# Altium footprint library KEY按键轻触开关.PcbLib: 1 footprints
Each footprint in its own frame and in the unit in brackets; x right, y up, seen from the top. Pads: shape width x height; smd on the part's side, far side on the other; paste and mask are expansions set on the pad; w line width, h text height; cw(c..) or ccw(c..) is an arc to the next point about the centre after c.
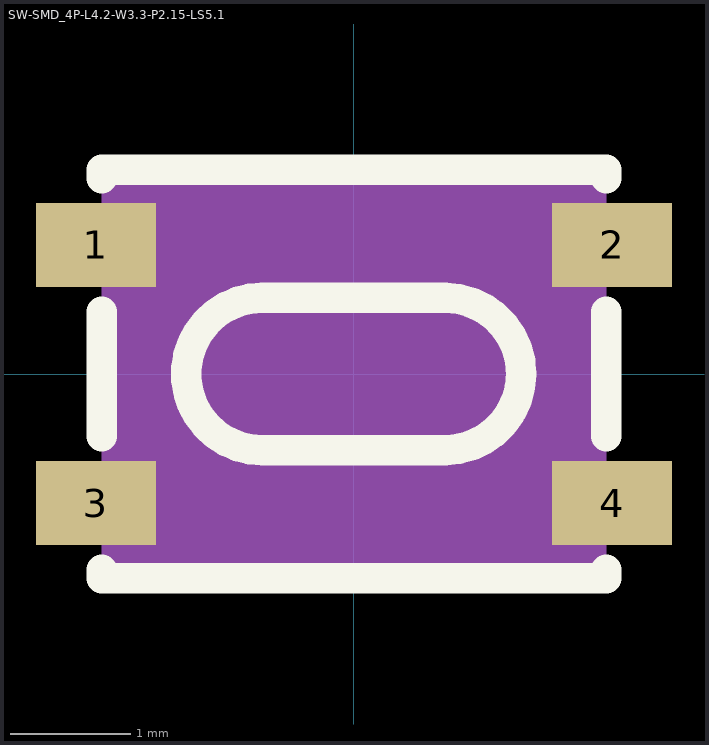
[diagram p0: the footprint, top view; thin cyan lines are the x and y axes]

## SW-SMD_4P-L4.2-W3.3-P2.15-LS5.1 [mm]
pads (4):
  rect 1x0.7 smd: 1(-2.15,1.075) 2(2.15,1.075) 3(-2.15,-1.075) 4(2.15,-1.075)
Top Overlay:
  lines w0.254: -2.1,-1.631 -2.1,-1.7 2.1,-1.7 2.1,-1.631 ; -2.1,-0.519 -2.1,0.519 ; -2.1,1.631 -2.1,1.7 2.1,1.7 2.1,1.631 ; -0.763,0.636 ccw(c-0.763,0) -0.762,-0.635 0.762,-0.635 ; -0.762,0.635 0.762,0.635 cw(c0.757,0) 0.761,-0.634 ; 2.1,-0.519 2.1,0.519
Mechanical 4:
  region: -2.1,-1.6 -2.1,1.6 2.1,1.6 2.1,-1.6
Mechanical 5:
  region: -2.05,1.35 -1.65,1.35 -1.65,0.8 -2.05,0.8
  region: 1.65,1.35 2.05,1.35 2.05,0.8 1.65,0.8
  region: 1.65,-0.8 2.05,-0.8 2.05,-1.35 1.65,-1.35
  region: -2.05,-0.8 -1.65,-0.8 -1.65,-1.35 -2.05,-1.35
Mechanical 6:
  circle w0.06: c-2.1,-1.6 r0.03